# Altium schematic symbol library connectors.SchLib: 17 symbols
Pins are listed as number, name and electrical type; pins without a type are passive.

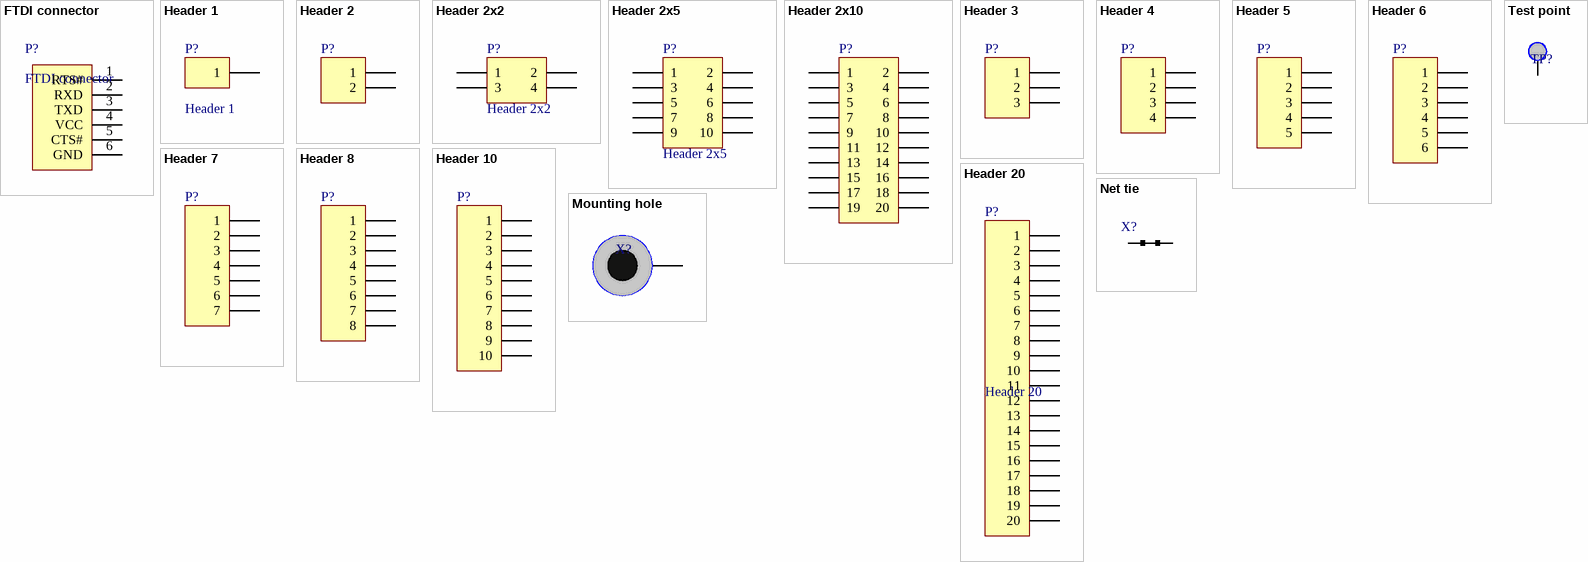
[diagram p0: symbols FTDI connector to Test point]

## FTDI connector
designator P?
footprint HDR_M_1X6_2.54 (Pitch 2.54)
pins: 1 RTS#, 2 RXD, 3 TXD, 4 VCC, 5 CTS#, 6 GND

## Header 1
designator P?
Header, 1-Pin; LatestRevisionDate: 17-Jul-2002; LatestRevisionNote: Re-released for DXP Platform.; Publisher: Altium Limited
footprint HDR_F_1X1_2.54 (Pitch 2.54)
footprint HDR_M_1X1_2.54 (Pitch 2.54)
footprint PAD_SMD_5X5
footprint WIRE_D0.80 (Hole diameter 0.80mm)
footprint WIRE_D1.00 (Hole diameter 1.00mm)
footprint WIRE_D1.50 (Hole diameter 1.50mm)
footprint WIRE_D3.00 (Hole diameter 3.00mm)
pins: 1

## Header 2
designator P?
Header, 2-Pin; LatestRevisionDate: 17-Jul-2002; LatestRevisionNote: Re-released for DXP Platform.; Publisher: Altium Limited
footprint HDR_F_1X2_2.54 (Pitch 2.54)
footprint HDR_M_1X2_2.54 (Pitch 2.54)
footprint HDR_SMD_1X2_1.50 (Pitch 1.50)
pins: 1, 2

## Header 2x2
designator P?
Header, 2-Pin; LatestRevisionDate: 17-Jul-2002; LatestRevisionNote: Re-released for DXP Platform.; Publisher: Altium Limited
footprint HDR_M_2X2_2.54_OUTLINE (Pitch 2.54)
footprint HDR_M_2X2_2.54 (Pitch 2.54)
pins: 1, 2, 3, 4

## Header 2x5
designator P?
Header, 2x5-Pin; LatestRevisionDate: 17-Jul-2002; LatestRevisionNote: Re-released for DXP Platform.; Publisher: Altium Limited
footprint HDR_M_2X5_2.54_OUTLINE (Pitch 2.54)
pins: 1, 2, 3, 4, 5, 6, 7, 8, 9, 10

## Header 2x10
designator P?
Header, 2x10-Pin; LatestRevisionDate: 17-Jul-2002; LatestRevisionNote: Re-released for DXP Platform.; Publisher: Altium Limited
footprint HDR_F_2X10_2.54 (Pitch 2.54)
footprint HDR_M_2X10_2.54 (Pitch 2.54)
footprint HDR_M_2X10_2.54_OUTLINE (Pitch 2.54)
pins: 1, 2, 3, 4, 5, 6, 7, 8, 9, 10, 11, 12, 13, 14, 15, 16, 17, 18, 19, 20

## Header 3
designator P?
Header, 3-Pin; LatestRevisionDate: 17-Jul-2002; LatestRevisionNote: Re-released for DXP Platform.; Publisher: Altium Limited
footprint HDR_F_1X3_2.54 (Pitch 2.54)
footprint HDR_M_1X3_2.54 (Pitch 2.54)
footprint HDR_SMD_1X3_1.50 (Pitch 1.50)
pins: 1, 2, 3

## Header 4
designator P?
Header, 4-Pin; LatestRevisionDate: 17-Jul-2002; LatestRevisionNote: Re-released for DXP Platform.; Publisher: Altium Limited
footprint HDR_F_1X4_2.54 (Pitch 2.54)
footprint HDR_M_1X4_2.54 (Pitch 2.54)
footprint HDR_M_2X2_2.54 (Pitch 2.54)
pins: 1, 2, 3, 4

## Header 5
designator P?
Header, 5-Pin; LatestRevisionDate: 17-Jul-2002; LatestRevisionNote: Re-released for DXP Platform.; Publisher: Altium Limited
footprint HDR_M_1X5_2.54 (Pitch 2.54)
footprint HDR_F_1X5_2.54 (Pitch 2.54)
footprint HDR_SMD_1x5_1.50 (Pitch 1.50)
footprint HDR_M_1X5_2.54_OUTLINE (Pitch 2.54)
pins: 1, 2, 3, 4, 5

## Header 6
designator P?
Header, 6-Pin; LatestRevisionDate: 17-Jul-2002; LatestRevisionNote: Re-released for DXP Platform.; Publisher: Altium Limited
footprint HDR_F_1X6_2.54 (Pitch 2.54)
footprint HDR_M_1X6_2.54 (Pitch 2.54)
pins: 1, 2, 3, 4, 5, 6

## Header 7
designator P?
Header, 7-Pin; LatestRevisionDate: 17-Jul-2002; LatestRevisionNote: Re-released for DXP Platform.; Publisher: Altium Limited
footprint HDR_F_1X7_2.54 (Pitch 2.54)
footprint HDR_M_1X7_2.54 (Pitch 2.54)
pins: 1, 2, 3, 4, 5, 6, 7

## Header 8
designator P?
Header, 8-Pin; LatestRevisionDate: 17-Jul-2002; LatestRevisionNote: Re-released for DXP Platform.; Publisher: Altium Limited
footprint HDR_F_1X8_2.54 (Pitch 2.54)
footprint HDR_M_1X8_2.54 (Pitch 2.54)
pins: 1, 2, 3, 4, 5, 6, 7, 8

## Header 10
designator P?
Header, 10-Pin; LatestRevisionDate: 17-Jul-2002; LatestRevisionNote: Re-released for DXP Platform.; Publisher: Altium Limited
footprint HDR_F_1X10_2.54 (Pitch 2.54)
footprint HDR_M_1X10_2.54 (Pitch 2.54)
pins: 1, 2, 3, 4, 5, 6, 7, 8, 9, 10

## Header 20
designator P?
Header, 20-Pin; LatestRevisionDate: 17-Jul-2002; LatestRevisionNote: Re-released for DXP Platform.; Publisher: Altium Limited
footprint HDR_F_1X20_2.54 (Pitch 2.54)
footprint HDR_M_1X20_2.54 (Pitch 2.54)
pins: 1, 2, 3, 4, 5, 6, 7, 8, 9, 10, 11, 12, 13, 14, 15, 16, 17, 18, 19, 20

## Mounting hole
designator X?  (no BOM)
footprint HOLE_M2_D4.0/2.5
footprint HOLE_M3_D6.0/3.5
footprint HOLE_M4_D8.0/4.5
pins: 1

## Net tie
designator X?  (net tie, no BOM)
Net tie
footprint NET_TIE_0.4 (Net tie, 0.4mm width)
footprint NET_TIE_0.8 (Net tie, 0.8mm width)
footprint NET_TIE_1.0 (Net tie, 0.8mm width)
pins: 1, 2

## Test point
designator TP?  (no BOM)
Test point
footprint TP_SMD_D1.00 (SMD test point, 1.0 mm diameter)
footprint TP_SMD_D1.50 (SMD test point, 1.50 mm diameter)
pins: 1